# Altium footprint library ss34.PcbLib: 1 footprints
Each footprint in its own frame and in the unit in brackets; x right, y up, seen from the top. Pads: shape width x height; smd on the part's side, far side on the other; paste and mask are expansions set on the pad; w line width, h text height; cw(c..) or ccw(c..) is an arc to the next point about the centre after c.
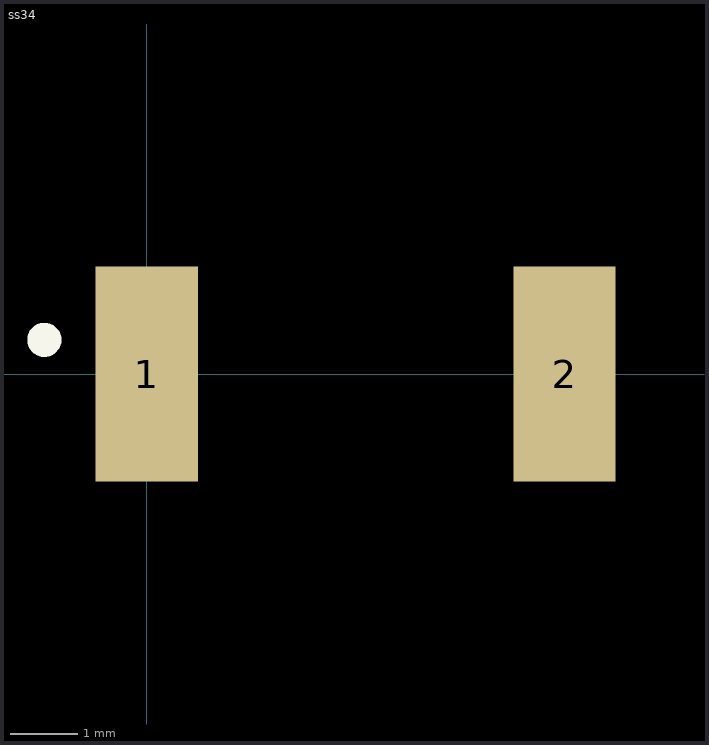
[diagram p0: the footprint, top view; thin cyan lines are the x and y axes]

## ss34 [mm]
pads (2):
  rect 1.52x3.2 smd: 1(0,0) 2(6.21,0)
Top Overlay:
  circle w0.254: c-1.524,0.508 r0.127